# Altium footprint library VQFN20_RGY.PcbLib: 1 footprints
Each footprint in its own frame and in the unit in brackets; x right, y up, seen from the top. Pads: shape width x height; smd on the part's side, far side on the other; paste and mask are expansions set on the pad; w line width, h text height; cw(c..) or ccw(c..) is an arc to the next point about the centre after c.
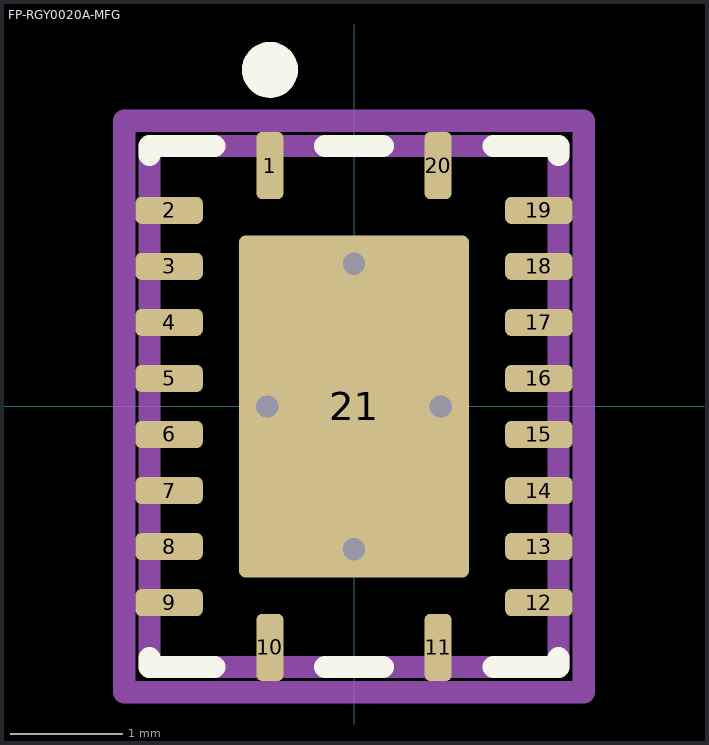
[diagram p0: the footprint, top view; thin cyan lines are the x and y axes]

## FP-RGY0020A-MFG [mm]
pads (21):
  rrect42% 0.24x0.6 smd paste+0 mask+0: 1(-0.75,2.15) 10(-0.75,-2.15) 11(0.75,-2.15) 20(0.75,2.15)
  rrect42% 0.6x0.24 smd paste+0 mask+0: 2(-1.65,1.75) 3(-1.65,1.25) 4(-1.65,0.75) 5(-1.65,0.25) 6(-1.65,-0.25) 7(-1.65,-0.75) 8(-1.65,-1.25) 9(-1.65,-1.75) 12(1.65,-1.75) 13(1.65,-1.25) 14(1.65,-0.75) 15(1.65,-0.25) 16(1.65,0.25) 17(1.65,0.75) 18(1.65,1.25) 19(1.65,1.75)
  rrect5% 2.05x3.05 smd paste-1000 mask+0: 21(0,0)
via 0,-1.275 diameter 0.5 hole 0.2
via 0,1.275 diameter 0.5 hole 0.2
via 0.775,0 diameter 0.5 hole 0.2
via -0.775,0 diameter 0.5 hole 0.2
Top Overlay:
  circle w0.25: c-0.75,3.005 r0.125
  lines w0.2: -1.825,-2.245 -1.825,-2.325 -1.245,-2.325 ; -1.825,2.245 -1.825,2.325 -1.245,2.325 ; -0.255,-2.325 0.255,-2.325 ; -0.255,2.325 0.255,2.325 ; 1.245,-2.325 1.825,-2.325 1.825,-2.245 ; 1.245,2.325 1.825,2.325 1.825,2.245
Top Paste:
  region: 0.97,-0.105 0.98,-0.105 0.998,-0.113 1.012,-0.127 1.02,-0.145 1.02,-0.155 1.02,-1.385 1.02,-1.395 1.012,-1.413 0.998,-1.427 0.98,-1.435 0.97,-1.435 0.15,-1.435 0.14,-1.435 0.122,-1.427 0.108,-1.413 0.1,-1.395 0.1,-1.385 0.1,-0.155 0.1,-0.145 0.108,-0.127 0.122,-0.113 0.14,-0.105 0.15,-0.105
  region: -1.02,-0.155 -1.02,-0.145 -1.012,-0.127 -0.998,-0.113 -0.98,-0.105 -0.97,-0.105 -0.15,-0.105 -0.14,-0.105 -0.122,-0.113 -0.108,-0.127 -0.1,-0.145 -0.1,-0.155 -0.1,-1.385 -0.1,-1.395 -0.108,-1.413 -0.122,-1.427 -0.14,-1.435 -0.15,-1.435 -0.97,-1.435 -0.98,-1.435 -0.998,-1.427 -1.012,-1.413 -1.02,-1.395 -1.02,-1.385
  region: 0.1,1.385 0.1,1.395 0.108,1.413 0.122,1.427 0.14,1.435 0.15,1.435 0.97,1.435 0.98,1.435 0.998,1.427 1.012,1.413 1.02,1.395 1.02,1.385 1.02,0.155 1.02,0.145 1.012,0.127 0.998,0.113 0.98,0.105 0.97,0.105 0.15,0.105 0.14,0.105 0.122,0.113 0.108,0.127 0.1,0.145 0.1,0.155
  region: -0.97,0.105 -0.98,0.105 -0.998,0.113 -1.012,0.127 -1.02,0.145 -1.02,0.155 -1.02,1.385 -1.02,1.395 -1.012,1.413 -0.998,1.427 -0.98,1.435 -0.97,1.435 -0.15,1.435 -0.14,1.435 -0.122,1.427 -0.108,1.413 -0.1,1.395 -0.1,1.385 -0.1,0.155 -0.1,0.145 -0.108,0.127 -0.122,0.113 -0.14,0.105 -0.15,0.105
Top Assembly:
  lines w0.2: -2.05,-2.55 -2.05,2.55 2.05,2.55 2.05,-2.55 -2.05,-2.55
  text ".Designator" at 0,0.187 h1
Top 3D Body:
  lines w0.2: -1.825,-2.325 -1.825,2.325 1.825,2.325 1.825,-2.325 -1.825,-2.325
Top Courtyard:
  lines w0.2: -2.05,-2.55 -2.05,2.55 2.05,2.55 2.05,-2.55 -2.05,-2.55
Top Component Center:
  lines w0.1: -0.5,0 0.5,0 ; 0,-0.5 0,0.5
3D body "IC_Texas_Instruments_TXS0108ERGYR_eec.STEP": height 0.25, standoff 0, extent -2.05,-2.55 2.05,2.55